# Altium schematic symbol library XP_7P.Schlib: 1 symbol
Pins are listed as number, name and electrical type; pins without a type are passive.

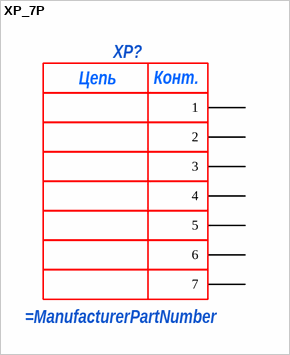
[diagram p0: symbol XP_7P]

## XP_7P
designator XP?
pins: 1, 2, 3, 4, 5, 6, 7
text: Цепь; Конт.